# Altium schematic symbol library SCH - MCU - ATMEGA - MICROCHIP ATMEGA1281-16MU QFN64.SchLib: 1 symbol
Pins are listed as number, name and electrical type; pins without a type are passive.

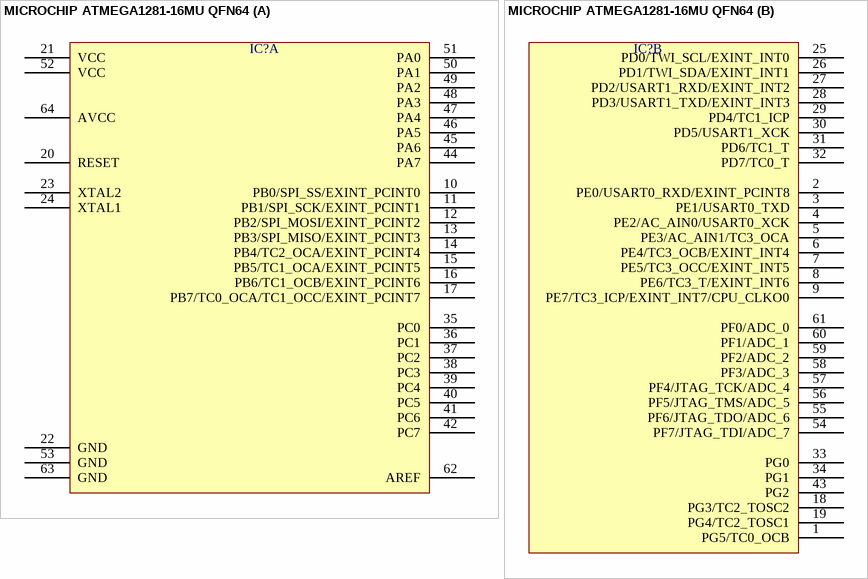
[diagram p0: symbol MICROCHIP ATMEGA1281-16MU QFN64]

## MICROCHIP ATMEGA1281-16MU QFN64
designator IC?  (value not drawn)
part A pins: 10 PB0/SPI_SS/EXINT_PCINT0, 11 PB1/SPI_SCK/EXINT_PCINT1, 12 PB2/SPI_MOSI/EXINT_PCINT2, 13 PB3/SPI_MISO/EXINT_PCINT3, 14 PB4/TC2_OCA/EXINT_PCINT4, 15 PB5/TC1_OCA/EXINT_PCINT5, 16 PB6/TC1_OCB/EXINT_PCINT6, 17 PB7/TC0_OCA/TC1_OCC/EXINT_PCINT7, 20 RESET, 21 VCC, 22 GND, 23 XTAL2, 24 XTAL1, 35 PC0, 36 PC1, 37 PC2, 38 PC3, 39 PC4, 40 PC5, 41 PC6, 42 PC7, 44 PA7, 45 PA6, 46 PA5, 47 PA4, 48 PA3, 49 PA2, 50 PA1, 51 PA0, 52 VCC, 53 GND, 62 AREF, 63 GND, 64 AVCC
part B pins: 1 PG5/TC0_OCB, 2 PE0/USART0_RXD/EXINT_PCINT8, 3 PE1/USART0_TXD, 4 PE2/AC_AIN0/USART0_XCK, 5 PE3/AC_AIN1/TC3_OCA, 6 PE4/TC3_OCB/EXINT_INT4, 7 PE5/TC3_OCC/EXINT_INT5, 8 PE6/TC3_T/EXINT_INT6, 9 PE7/TC3_ICP/EXINT_INT7/CPU_CLKO0, 18 PG3/TC2_TOSC2, 19 PG4/TC2_TOSC1, 25 PD0/TWI_SCL/EXINT_INT0, 26 PD1/TWI_SDA/EXINT_INT1, 27 PD2/USART1_RXD/EXINT_INT2, 28 PD3/USART1_TXD/EXINT_INT3, 29 PD4/TC1_ICP, 30 PD5/USART1_XCK, 31 PD6/TC1_T, 32 PD7/TC0_T, 33 PG0, 34 PG1, 43 PG2, 54 PF7/JTAG_TDI/ADC_7, 55 PF6/JTAG_TDO/ADC_6, 56 PF5/JTAG_TMS/ADC_5, 57 PF4/JTAG_TCK/ADC_4, 58 PF3/ADC_3, 59 PF2/ADC_2, 60 PF1/ADC_1, 61 PF0/ADC_0